# Altium footprint library CC2530CC2531CC2540CC2541pcb封装.PcbLib: 61 footprints (part 4 of 4)
Each footprint in its own frame and in the unit in brackets; x right, y up, seen from the top. Pads: shape width x height; smd on the part's side, far side on the other; paste and mask are expansions set on the pad; w line width, h text height; cw(c..) or ccw(c..) is an arc to the next point about the centre after c.
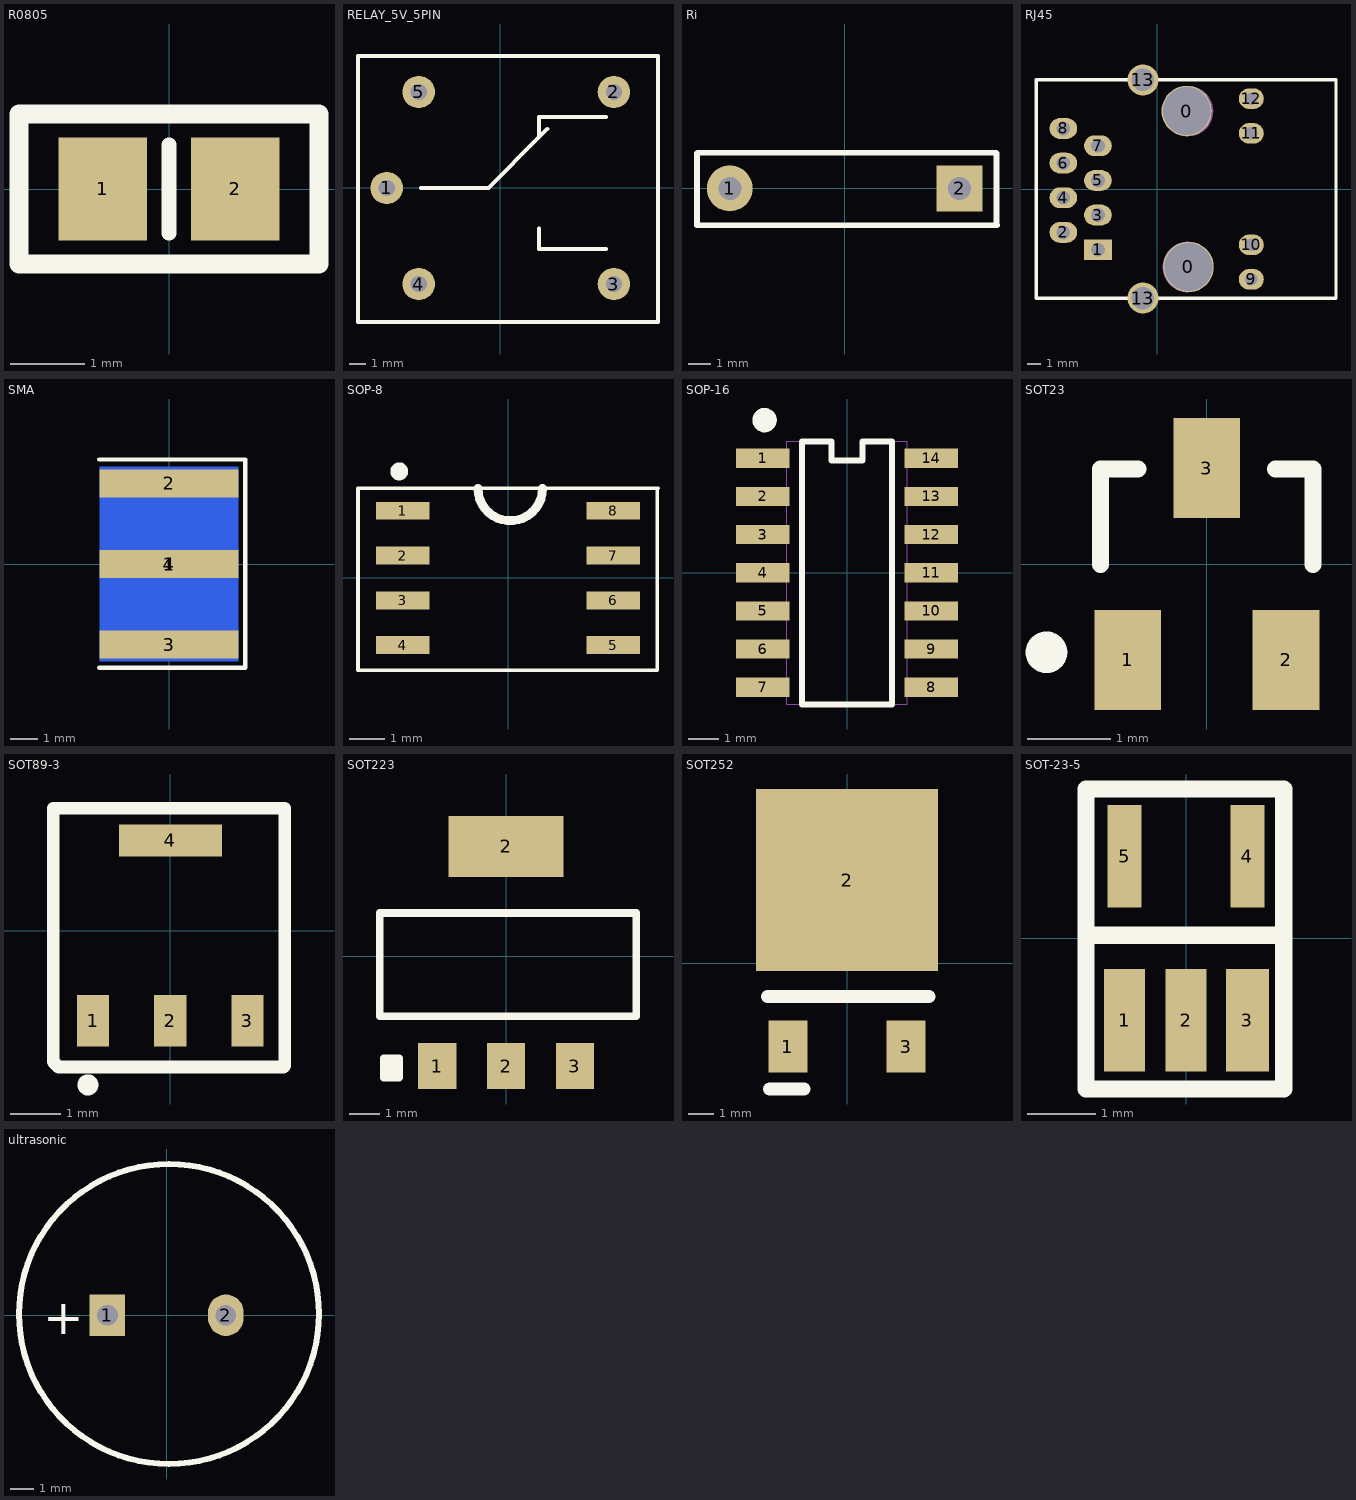
[diagram p3: the footprints below, top view; thin cyan lines are the x and y axes]

## R0805 [mm] "Chip Resistor, Body 2.0x1.2mm, IPC Medium Density"
height 0.7
pads (2):
  rect 1.2x1.4 smd: 1(-0.9,0) 2(0.9,0)
Top Overlay:
  lines w0.2: 0,-0.6 0,0.6
  lines w0.254: -2.032,-1.016 2.032,-1.016 2.032,1.016 -2.032,1.016 -2.032,-1.016
Mechanical 15:
  lines w0.1: 0,-0.5 0,0.5

## RELAY_5V_5PIN [mil]
pads (5):
  round 80 hole 40: 1(-279.5,0) 2(279.5,236.2) 3(279.5,-236.2) 4(-200.7,-236.2) 5(-200.7,236.2)
Top Overlay:
  lines w10: -194.5,0 -29.5,0 95.5,125 ; 95.5,-100 95.5,-150 260.5,-150 ; 115.5,145 95.5,125 ; 260.5,175 95.5,175 95.5,125 ; -350,-330 388,-330 388,325 -350,325 -350,-330

## Ri [mil] "res for detect i"
pads (2):
  round 80 hole 40: 1(-200,0)
  rect 80x80 hole 40: 2(200,0)
Top Overlay:
  lines w10: -257,-64 -257,53 -257,61 -256,62 263,62 264,61 264,-63 265,-64 -257,-64

## RJ45 [mil]
pads (16):
  round 145.67 hole 137.8: 0(85,225) 0(90,-225)
  rect 80x60 hole 40: 1(-171.46,-175.2)
  oval 80x60 hole 40: 2(-271.46,-125.2) 3(-171.46,-75.2) 4(-271.46,-25.2) 5(-171.46,24.8) 6(-271.46,74.8) 7(-171.46,124.8) 8(-271.46,174.8)
  oval 72x60 hole 36: 9(271.46,-260.83) 10(271.46,-161.2) 11(271.46,160.67) 12(271.46,260.8)
  round 90 hole 65: 13(-41.54,-314.96) 13(-41.54,314.96)
Top Overlay:
  lines w10: -350.2,-315.2 -349.96,-314.96 ; -350.2,314.8 -350.04,314.96 ; -350.04,314.96 -350.04,-314.88 -349.96,-314.96 ; -350.04,314.96 -41.54,314.96 515.79,314.96 515.95,314.8 515.95,-315.2 515.71,-314.96 -41.54,-314.96 -349.96,-314.96
Mechanical 1:
  circle w5: c88.54,-225.2 r70.8
  circle w5: c88.54,224.8 r70.8

## SMA [mm]
pads (4):
  rect 5x1 smd: 1(0,0) 2(0,2.9) 3(0,-2.9)
  rect 5x7 smd far side: 4(0,0)
Top Overlay:
  lines w0.152: -2.515,-3.734 2.743,-3.734 2.743,3.759 -2.515,3.759

## SOP-8 [mil]
pads (8):
  rect 60x20 smd: 1(-117.5,75) 2(-117.5,25) 3(-117.5,-25) 4(-117.5,-75) 5(117.5,-75) 6(117.5,-25) 7(117.5,25) 8(117.5,75)
Top Overlay:
  circle w10: c-121.5,119 r5
  lines w4: -167.5,-103 166.5,-103 166.5,99 167.5,100 -167.5,100 -167.5,-103
  lines w10: -33.64,100 ccw(c2.5,100) 38.64,100

## SOP-16 [mm]
pads (14):
  rect 1.778x0.635 smd: 1(-2.8,3.81) 2(-2.8,2.54) 3(-2.8,1.27) 4(-2.8,0) 5(-2.8,-1.27) 6(-2.8,-2.54) 7(-2.8,-3.81) 8(2.8,-3.81) 9(2.8,-2.54) 10(2.8,-1.27) 11(2.8,0) 12(2.8,1.27) 13(2.8,2.54) 14(2.8,3.81)
Top Overlay:
  circle w0.406: c-2.743,5.08 r0.203
  lines w0.2: -1.5,-4.375 -1.5,4.375 -0.508,4.375 -0.508,3.74 0.508,3.74 0.508,4.375 1.5,4.375 1.5,-4.375 -1.5,-4.375
Mechanical 8:
  lines w0.025: -2,-4.375 -2,4.375 -0.508,4.375 -0.508,3.74 0.508,3.74 0.508,4.375 2,4.375 2,-4.375 -2,-4.375

## SOT23 [mm] "SOT-23; 3 Leads; Body 3.0 x 2.3 mm, inc. leads (LxW max)"
height 1.1
pads (3):
  rect 0.8x1.2 smd: 1(-0.95,-1.15) 2(0.95,-1.15) 3(0,1.15)
Top Overlay:
  circle w0.25: c-1.925,-1.06 r0.125
  lines w0.2: -1.275,-0.01 -1.275,1.14 -0.825,1.14 ; 0.825,1.14 1.275,1.14 1.275,-0.01

## SOT89-3 [mil]
pads (4):
  rect 25x40 smd: 1(-60,-70) 2(0,-70) 3(60,-70)
  rect 80x25 smd: 4(0,70)
Top Overlay:
  circle w10: c-64,-120 r3.16
  lines w10: -91,-102 -91,95 89,95 89,-105 88,-106 -87,-106 -91,-102

## SOT223 [mil]
pads (4):
  rect 50x60 smd: 1(-90,-143.5) 2(0,-143.5) 3(90,-143.5)
  rect 150x80 smd: 2(0,143.5)
Top Overlay:
  lines w10: -150,-158.5 -150,-133.5 ; -165,-78.5 -165,56.5 170,56.5 170,-78.5 -165,-78.5 ; -160,-158.5 -160,-133.5 -140,-133.5 -140,-158.5 -160,-158.5

## SOT252 [mil]
pads (3):
  rect 60x80 smd: 1(-91,-128) 3(91,-128)
  rect 280x280 smd: 2(0,128)
Top Overlay:
  lines w20: -122,-51 126,-51 ; -119,-193 -66,-193

## SOT-23-5 [mm]
pads (5):
  rect 0.6x1.5 smd: 1(-0.9,-1.2) 2(0,-1.2)
  rect 0.63x1.5 smd: 3(0.9,-1.2)
  rect 0.5x1.5 smd: 4(0.9,1.2) 5(-0.9,1.2)
Top Overlay:
  lines w0.254: -1.466,0.041 1.43,0.041 ; -1.466,-2.21 -1.466,2.184 1.43,2.184 1.43,-2.21 -1.466,-2.21

## ultrasonic [mil]
pads (2):
  rect 60x70 hole 35: 1(-100,0)
  oval 60x70 hole 35: 2(100,0)
Top Overlay:
  circle w10: c4,2 r253.34
  text "+" at -208,-32 h60